# EAGLE library part HEXSW (library EW_switches)
BCD HEX ROTARY SWITCH (LORLIN BC1002) LORLIN - Rotary Coded Switch, BCK Series, Panel, 16 Position, 50 V, Hexadecimal, 150 mA LORLIN BCK1002 Onecall 279-7231 https://www.farnell.com/datasheets/2367443.pdf
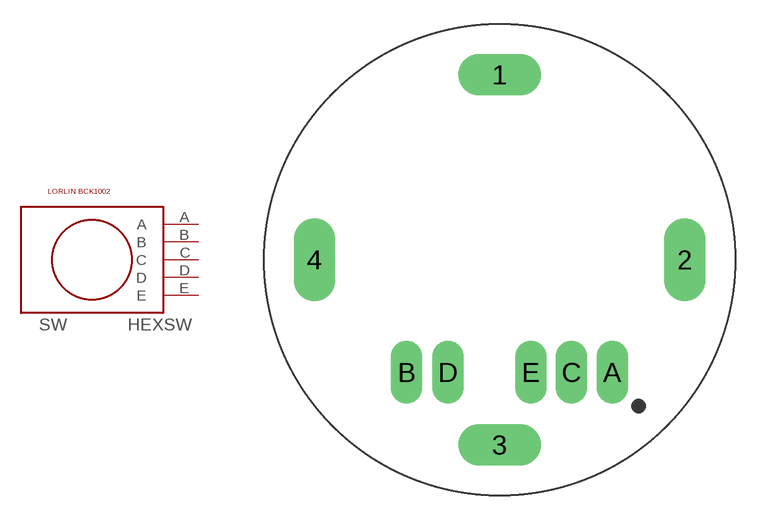
[diagram p139: symbol with the pads of HEXSW; footprint HEXSW]

Designator prefix SW

## HEXSW" (DESCRIPTION: BCK1002 BCD Switch; DEVICE: BCK1002; FOOTPRINT: BCK1002)  [HEXSW]
1  1  nc
2  2  nc
3  3  nc
4  4  nc
A  A
B  B
C  C
D  D
E  E

## Footprint HEXSW (pad centres in mm)
Rotary Hex BCD switch
drill 1.2 pad 2.54 long: 1 0,11.35; 2 11.35,0; 3 0,-11.35; 4 -11.35,0
drill 1.2 pad 1.93 long: A 6.9,-6.9; B -5.7,-6.904; C 4.4,-6.9; D -3.17,-6.9; E 1.9,-6.9